# EAGLE library part TMP300 (library satellite)
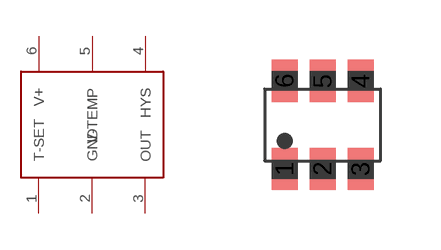
[diagram p5: symbol with the pads of SOT23-6; footprint SOT23-6]

Designator prefix -

## TMP300  [SOT23-6]
1  T-SET
2  GND
3  OUT
4  HYS
5  V-TEMP
6  V+

## Footprint SOT23-6 (pad centres in mm)
smd 0.65 x 1.06: 1 -0.95,-1.1; 2 0,-1.1; 3 0.95,-1.1; 4 0.95,1.1; 5 0,1.1; 6 -0.95,1.1